# EAGLE library part LTC2945 (library Eagle_CAD_parts)
IC POWER MONITOR I2C 12-QFN
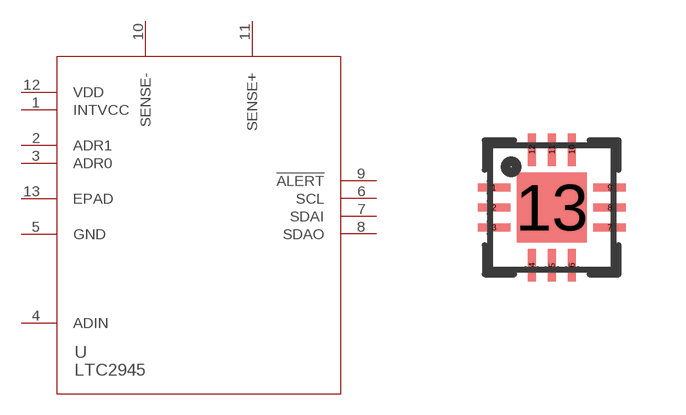
[diagram p48: symbol with the pads of 12-QFN-3X3; footprint 12-QFN-3X3]

Designator prefix U

## LTC2945 (DIGIKEY_PART_NUMBER: LTC2945IUD#TRPBFCT-ND; MANUFACTURER_PART_NUMBER: LTC2945IUD#TRPBF)  [12-QFN-3X3]
1  INTVCC
2  ADR1  in
3  ADR0  in
4  ADIN  in
5  GND  pwr
6  SCL  in
7  SDAI  in
8  SDAO  out
9  !ALERT  out
10  SENSE-  in
11  SENSE+  in
12  VDD  pwr
13  EPAD  pas

## Footprint 12-QFN-3X3 (pad centres in mm)
smd 0.813 x 0.203: 1 -1.448,0.5; 2 -1.448,0; 3 -1.448,-0.5; 7 1.448,-0.5; 8 1.448,0; 9 1.448,0.5
smd 0.203 x 0.813: 4 -0.5,-1.448; 5 0,-1.448; 6 0.5,-1.448; 10 0.5,1.448; 11 0,1.448; 12 -0.5,1.448
smd 1.753 x 1.753: 13 0,0